# EAGLE library part SN74LVC2G157 (library JoesCustom)
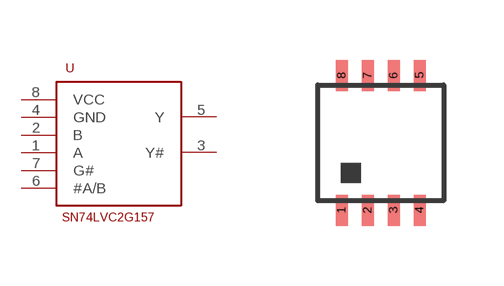
[diagram p5: symbol with the pads of SM8; footprint SM8]

Designator prefix -

## SN74LVC2G157  [SM8]
1  A
2  B
3  Y#
4  GND
5  Y
6  #A/B
7  G#
8  VCC

## Footprint SM8 (pad centres in mm)
smd 0.3 x 0.775: 1 -0.975,-1.688; 2 -0.325,-1.688; 3 0.325,-1.688; 4 0.975,-1.688; 5 0.975,1.688; 6 0.325,1.688; 7 -0.325,1.688; 8 -0.975,1.688